# EAGLE library part JST_SH_6POS_SIDE (library thanics_robotics)
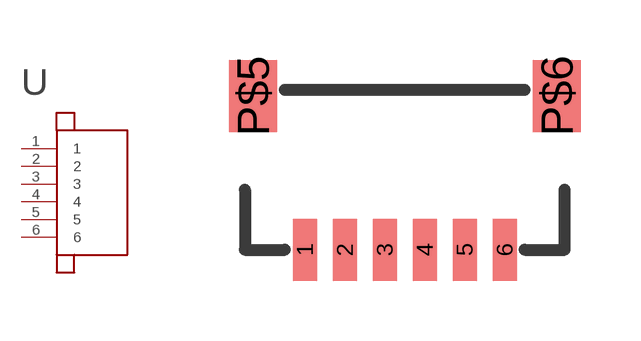
[diagram p29: symbol with the pads of JST_SH_6POS_SIDE; footprint JST_SH_6POS_SIDE]

Designator prefix -

## JST_SH_6POS_SIDE  [JST_SH_6POS_SIDE]
1  1
2  2
3  3
4  4
5  5
6  6

## Footprint JST_SH_6POS_SIDE (pad centres in mm)
smd 0.6 x 1.55: 1 -1.5,0; 2 -0.5,0; 3 0.5,0; 4 1.5,0; 5 2.5,0; 6 3.5,0
smd 1.2 x 1.8: P$5 -2.8,3.85; P$6 4.8,3.85